# Altium integrated library CRYSTAL.IntLib: 6 symbols
Pins are listed as number, name and electrical type; pins without a type are passive.

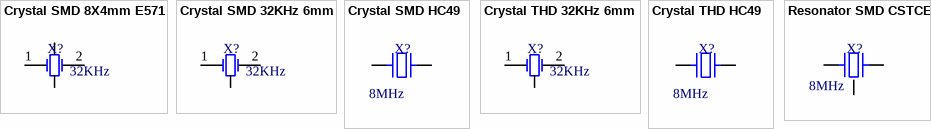
[diagram p0: symbols Crystal SMD 8X4mm E571 to Resonator SMD CSTCE]

## Crystal SMD 8X4mm E571
designator X?  Parameter 1: 32KHz
footprint XTAL SMD 8X4 E571
pins: 1 OSC1, 2 OSC2, 3, 4

## Crystal SMD 32KHz 6mm
designator X?  Parameter 1: 32KHz
footprint XTAL SMD RTC 6MM
pins: 1 OSC1, 2 OSC2, 3

## Crystal SMD HC49
designator X?  Parameter 1: 8MHz
SMT Crystal
footprint XTAL SMD HC49 (SMD crystal resonator, ABL, ABLS, HC-49, HC49 11X4.5MM)
pins: 1, 2

## Crystal THD 32KHz 6mm
designator X?  Parameter 1: 32KHz
footprint XTAL THD RTC 6MM
pins: 1 OSC1, 2 OSC2, 3

## Crystal THD HC49
designator X?  Parameter 1: 8MHz
SMT Crystal
footprint XTAL THD HC49 (Crystal PTH HC49S)
pins: 1, 2

## Resonator SMD CSTCE
designator X?  Parameter 1: 8MHz
SMT Crystal
footprint XTAL SMD CSTCE
pins: 1, 2, 3